# Altium schematic symbol library 05E_Fuse.SchLib: 3 symbols
Pins are listed as number, name and electrical type; pins without a type are passive.

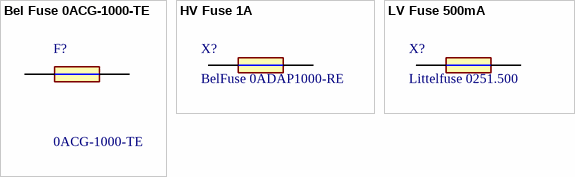
[diagram p0: symbols Bel Fuse 0ACG-1000-TE to LV Fuse 500mA]

## Bel Fuse 0ACG-1000-TE
designator F?, comment 0ACG-1000-TE
BEL FUSE - 0ACG-1000-TE - SMD FUSE, 1A, 350VAC, 11.2MM X 5.05MM; Geometry.Height: 5.55mm; Mouser Part Number: 530-0ACG-1000-TE; Mouser Price/Stock: https://www.mouser.co.uk/ProductDetail/Bel-Fuse/0ACG-1000-TE?qs=stqOd1AaK7%252BhvmT15fmBCw%3D%3D; Manufacturer_Name: BelFuse; Manufacturer_Part_Number: 0ACG-1000-TE; Datasheet Link: https://www.belfuse.com/resources/datasheets/circuitprotection/ds-CP-0ACG-series.pdf
footprint BELFUSE 0ACG1000TE
pins: 1, 2

## HV Fuse 1A
designator X?, comment BelFuse 0ADAP1000-RE
Bel Fuse 600VAC/600VDC 1A
footprint BelFuse 0ADAP
pins: 1, 2

## LV Fuse 500mA
designator X?, comment Littelfuse 0251.500
Littelfuse 251 series 125VAC/125VDC 500mA
footprint LITTELFUSE 0251
pins: 1, 2